# EAGLE library part FT2232H (library microbuilder)
FTDI 2232H - Dual High-Speed USB to UART/FIFO
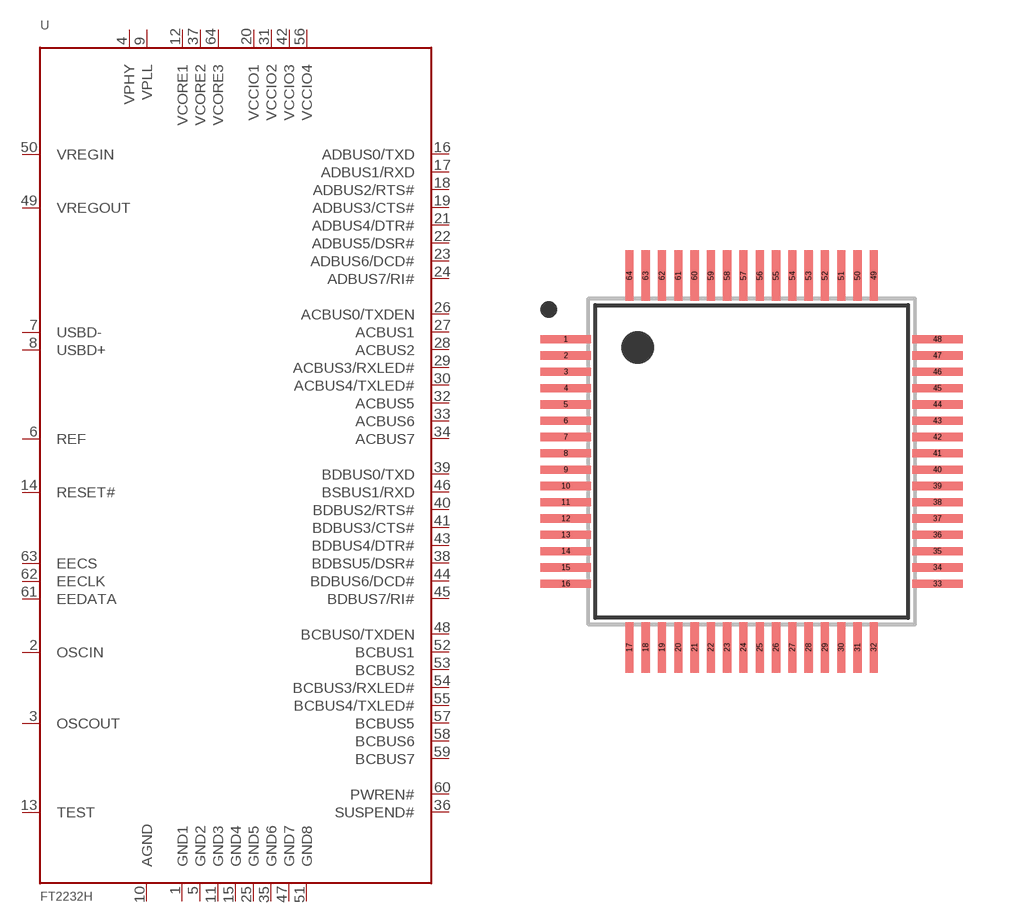
[diagram p78: symbol with the pads of LQFP64; footprint LQFP64]

Designator prefix U

## FT2232H  [LQFP64]
1  GND1
2  OSCIN
3  OSCOUT
4  VPHY
5  GND2
6  REF
7  USBD-
8  USBD+
9  VPLL
10  AGND
11  GND3
12  VCORE1
13  TEST
14  RESET#
15  GND4
16  ADBUS0/TXD
17  ADBUS1/RXD
18  ADBUS2/RTS#
19  ADBUS3/CTS#
20  VCCIO1
21  ADBUS4/DTR#
22  ADBUS5/DSR#
23  ADBUS6/DCD#
24  ADBUS7/RI#
25  GND5
26  ACBUS0/TXDEN
27  ACBUS1
28  ACBUS2
29  ACBUS3/RXLED#
30  ACBUS4/TXLED#
31  VCCIO2
32  ACBUS5
33  ACBUS6
34  ACBUS7
35  GND6
36  SUSPEND#
37  VCORE2
38  BDBSU5/DSR#
39  BDBUS0/TXD
40  BDBUS2/RTS#
41  BDBUS3/CTS#
42  VCCIO3
43  BDBUS4/DTR#
44  BDBUS6/DCD#
45  BDBUS7/RI#
46  BSBUS1/RXD
47  GND7
48  BCBUS0/TXDEN
49  VREGOUT
50  VREGIN
51  GND8
52  BCBUS1
53  BCBUS2
54  BCBUS3/RXLED#
55  BCBUS4/TXLED#
56  VCCIO4
57  BCBUS5
58  BCBUS6
59  BCBUS7
60  PWREN#
61  EEDATA
62  EECLK
63  EECS
64  VCORE3

## Footprint LQFP64 (pad centres in mm)
smd 1.55 x 0.25: 1 -5.7,3.75; 2 -5.7,3.25; 3 -5.7,2.75; 4 -5.7,2.25; 5 -5.7,1.75; 6 -5.7,1.25; 7 -5.7,0.75; 8 -5.7,0.25; 9 -5.7,-0.25; 10 -5.7,-0.75; 11 -5.7,-1.25; 12 -5.7,-1.75; 13 -5.7,-2.25; 14 -5.7,-2.75; 15 -5.7,-3.25; 16 -5.7,-3.75; 33 5.7,-3.75; 34 5.7,-3.25; 35 5.7,-2.75; 36 5.7,-2.25; 37 5.7,-1.75; 38 5.7,-1.25; 39 5.7,-0.75; 40 5.7,-0.25; 41 5.7,0.25; 42 5.7,0.75; 43 5.7,1.25; 44 5.7,1.75; 45 5.7,2.25; 46 5.7,2.75; 47 5.7,3.25; 48 5.7,3.75
smd 0.25 x 1.55: 17 -3.75,-5.7; 18 -3.25,-5.7; 19 -2.75,-5.7; 20 -2.25,-5.7; 21 -1.75,-5.7; 22 -1.25,-5.7; 23 -0.75,-5.7; 24 -0.25,-5.7; 25 0.25,-5.7; 26 0.75,-5.7; 27 1.25,-5.7; 28 1.75,-5.7; 29 2.25,-5.7; 30 2.75,-5.7; 31 3.25,-5.7; 32 3.75,-5.7; 49 3.75,5.7; 50 3.25,5.7; 51 2.75,5.7; 52 2.25,5.7; 53 1.75,5.7; 54 1.25,5.7; 55 0.75,5.7; 56 0.25,5.7; 57 -0.25,5.7; 58 -0.75,5.7; 59 -1.25,5.7; 60 -1.75,5.7; 61 -2.25,5.7; 62 -2.75,5.7; 63 -3.25,5.7; 64 -3.75,5.7